# EAGLE library part AFE032 (library MDB_HOME)
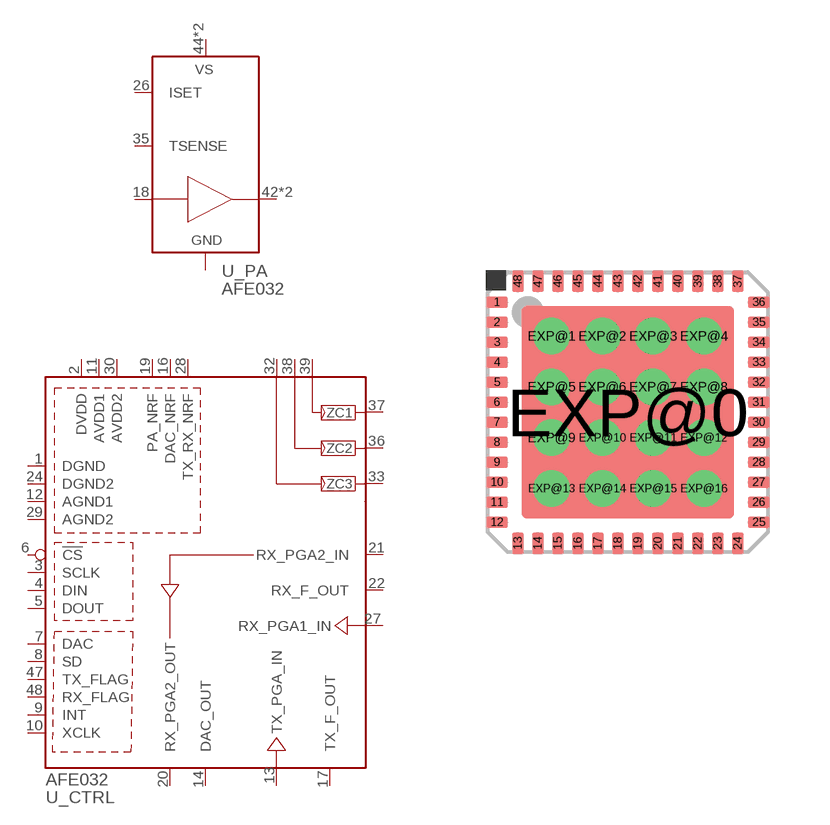
[diagram p62: symbol with the pads of QFN48; footprint QFN48]

Designator prefix U; gates _CTRL=AFE032_A _PA=PA

## AFE032  [QFN48]
1  _CTRL:DGND  pwr
2  _CTRL:DVDD  pwr
3  _CTRL:SCLK
4  _CTRL:DIN
5  _CTRL:DOUT
6  _CTRL:!CS
7  _CTRL:DAC
8  _CTRL:SD
9  _CTRL:INT
10  _CTRL:XCLK  in
11  _CTRL:AVDD1  pwr
12  _CTRL:AGND1  pwr
13  _CTRL:TX_PGA_IN  in
14  _CTRL:DAC_OUT  in
16  _CTRL:DAC_NRF
17  _CTRL:TX_F_OUT  out
18  _PA:PA_IN  in
19  _CTRL:PA_NRF
20  _CTRL:RX_PGA2_OUT  in
21  _CTRL:RX_PGA2_IN  in
22  _CTRL:RX_F_OUT  out
24  _CTRL:DGND2  pwr
26  _PA:ISET  in
27  _CTRL:RX_PGA1_IN  in
28  _CTRL:TX_RX_NRF  in
29  _CTRL:AGND2  pwr
30  _CTRL:AVDD2  pwr
31  _PA:GND  pwr
32  _CTRL:ZC_IN3  in
33  _CTRL:ZC_OUT3  out
35  _PA:TSENSE  in
36  _CTRL:ZC_OUT2  out
37  _CTRL:ZC_OUT1  out
38  _CTRL:ZC_IN2  in
39  _CTRL:ZC_IN1  in
40  _PA:GND  pwr
41  _PA:GND  pwr
42  _PA:PA_OUT  out
43  _PA:PA_OUT  out
44  _PA:VS  pwr
45  _PA:VS  pwr
47  _CTRL:TX_FLAG
48  _CTRL:RX_FLAG
EXP@0  _PA:GND  pwr
EXP@1  _PA:GND  pwr
EXP@2  _PA:GND  pwr
EXP@3  _PA:GND  pwr
EXP@4  _PA:GND  pwr
EXP@5  _PA:GND  pwr
EXP@6  _PA:GND  pwr
EXP@7  _PA:GND  pwr
EXP@8  _PA:GND  pwr
EXP@9  _PA:GND  pwr
EXP@10  _PA:GND  pwr
EXP@11  _PA:GND  pwr
EXP@12  _PA:GND  pwr
EXP@13  _PA:GND  pwr
EXP@14  _PA:GND  pwr
EXP@15  _PA:GND  pwr
EXP@16  _PA:GND  pwr

## Footprint QFN48 (pad centres in mm)
48-pin QFN 7 x 7 mm LF48 QFN-48 Quad Flat Package No Leads, PowerPAD TI QFN Layout Guidelines <http://www.ti.com/lit/an/sloa122/sloa122.pdf> TI QFN/SON PCB Attachment <http://www.ti.com/lit/an/slua271a/slua271a.pdf> Cypress package source <http://v4.cypress.com/cfuploads/img/products/cywusb6934.pdf> It has been observed that some QFN configurations utilize an exposed metal pin 1 feature beneath the component, which has a potential of shorting to a via if present in this region. Therefore, TI recommends maintaining a routing and via keep-out area by pin 1 on all QFN designs to guard against this risk and offer more flexibility when selecting different suppliers. SLUA271A–June 2002–Revised September 2007, page 8 <http://www.ti.com/lit/an/slua271a/slua271a.pdf>
smd 0.55 x 0.3: 1 -3.275,2.75; 2 -3.275,2.25; 3 -3.275,1.75; 4 -3.275,1.25; 5 -3.275,0.75; 6 -3.275,0.25; 7 -3.275,-0.25; 8 -3.275,-0.75; 9 -3.275,-1.25; 10 -3.275,-1.75; 11 -3.275,-2.25; 12 -3.275,-2.75; 25 3.275,-2.75; 26 3.275,-2.25; 27 3.275,-1.75; 28 3.275,-1.25; 29 3.275,-0.75; 30 3.275,-0.25; 31 3.275,0.25; 32 3.275,0.75; 33 3.275,1.25; 34 3.275,1.75; 35 3.275,2.25; 36 3.275,2.75
smd 0.3 x 0.55: 13 -2.75,-3.275; 14 -2.25,-3.275; 15 -1.75,-3.275; 16 -1.25,-3.275; 17 -0.75,-3.275; 18 -0.25,-3.275; 19 0.25,-3.275; 20 0.75,-3.275; 21 1.25,-3.275; 22 1.75,-3.275; 23 2.25,-3.275; 24 2.75,-3.275; 37 2.75,3.275; 38 2.25,3.275; 39 1.75,3.275; 40 1.25,3.275; 41 0.75,3.275; 42 0.25,3.275; 43 -0.25,3.275; 44 -0.75,3.275; 45 -1.25,3.275; 46 -1.75,3.275; 47 -2.25,3.275; 48 -2.75,3.275
smd 5.309 x 5.309: EXP@0 0,0
drill 0.4 pad 0.813: EXP@1 -1.905,1.905; EXP@2 -0.635,1.905; EXP@3 0.635,1.905; EXP@4 1.905,1.905; EXP@5 -1.905,0.635; EXP@6 -0.635,0.635; EXP@7 0.635,0.635; EXP@8 1.905,0.635; EXP@9 -1.905,-0.635; EXP@10 -0.635,-0.635; EXP@11 0.635,-0.635; EXP@12 1.905,-0.635; EXP@13 -1.905,-1.905; EXP@14 -0.635,-1.905; EXP@15 0.635,-1.905; EXP@16 1.905,-1.905